# Altium footprint library SIGMA_2D.PcbLib: 200 footprints (part 9 of 13)
Each footprint in its own frame and in the unit in brackets; x right, y up, seen from the top. Pads: shape width x height; smd on the part's side, far side on the other; paste and mask are expansions set on the pad; w line width, h text height; cw(c..) or ccw(c..) is an arc to the next point about the centre after c.
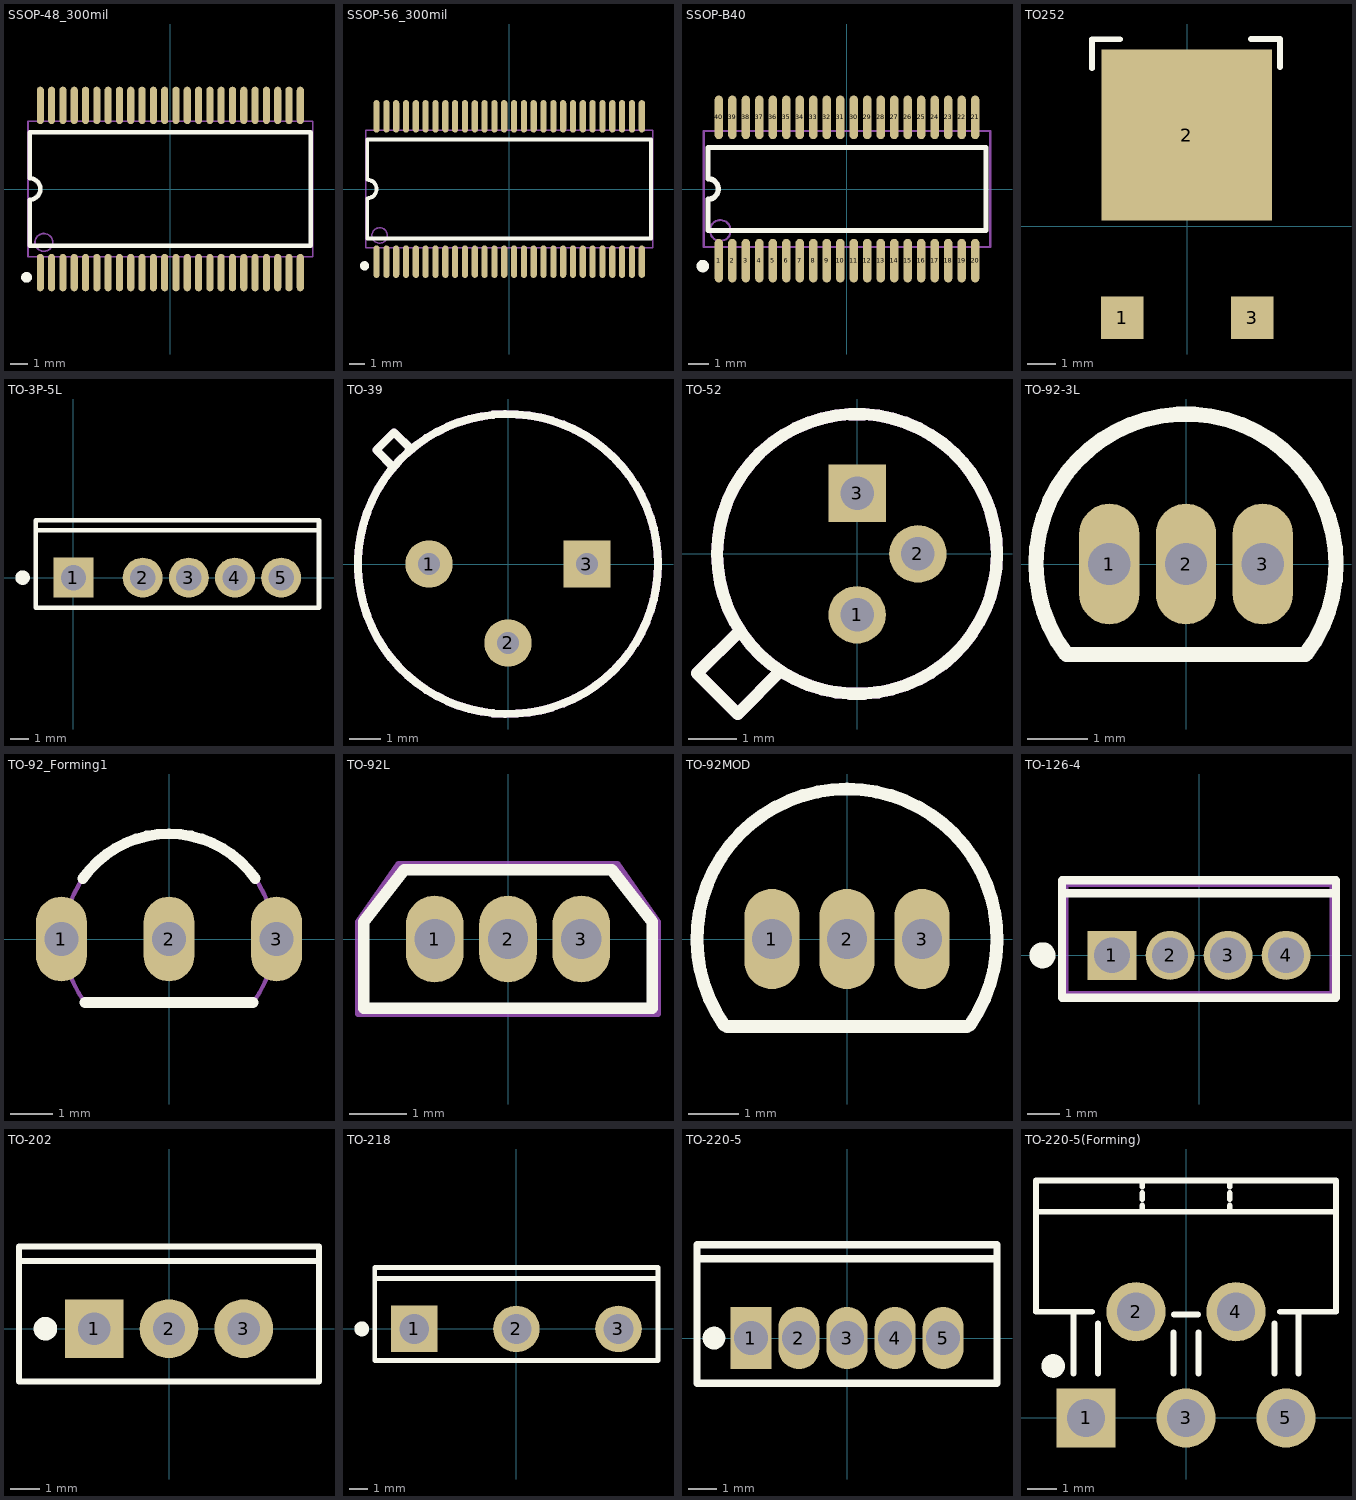
[diagram p8: the footprints below, top view; thin cyan lines are the x and y axes]

## SSOP-48_300mil [mm]
pads (48):
  oval 0.4x2.1 smd mask+0.051: 1(-7.302,-4.7) 2(-6.667,-4.7) 3(-6.032,-4.7) 4(-5.397,-4.7) 5(-4.763,-4.7) 6(-4.127,-4.7) 7(-3.492,-4.7) 8(-2.857,-4.7) 9(-2.222,-4.7) 10(-1.587,-4.7) 11(-0.953,-4.7) 12(-0.318,-4.7) 13(0.318,-4.7) 14(0.953,-4.7) 15(1.587,-4.7) 16(2.222,-4.7) 17(2.857,-4.7) 18(3.492,-4.7) 19(4.127,-4.7) 20(4.763,-4.7) 21(5.397,-4.7) 22(6.032,-4.7) 23(6.667,-4.7) 24(7.302,-4.7) 25(7.302,4.7) 26(6.667,4.7) 27(6.032,4.7) 28(5.397,4.7) 29(4.763,4.7) 30(4.127,4.7) 31(3.492,4.7) 32(2.857,4.7) 33(2.222,4.7) 34(1.587,4.7) 35(0.953,4.7) 36(0.318,4.7) 37(-0.318,4.7) 38(-0.953,4.7) 39(-1.587,4.7) 40(-2.222,4.7) 41(-2.857,4.7) 42(-3.492,4.7) 43(-4.127,4.7) 44(-4.763,4.7) 45(-5.397,4.7) 46(-6.032,4.7) 47(-6.667,4.7) 48(-7.302,4.7)
Top Overlay:
  circle w0.3: c-8.075,-4.965 r0.15
  lines w0.254: -7.9,-3.2 7.9,-3.2 7.9,3.2 -7.9,3.2 -7.9,0.6 cw(c-7.9,0) -7.9,-0.6 -7.9,-3.2
Mechanical 13:
  circle w0.1: c-7.1,-3 r0.5
  lines w0.1: -8,-3.8 8,-3.8 8,3.8 -8,3.8 -8,-3.8

## SSOP-56_300mil [mm]
pads (56):
  oval 0.4x2.1 smd mask+0.051: 1(-8.572,-4.7) 2(-7.937,-4.7) 3(-7.302,-4.7) 4(-6.667,-4.7) 5(-6.032,-4.7) 6(-5.397,-4.7) 7(-4.762,-4.7) 8(-4.127,-4.7) 9(-3.492,-4.7) 10(-2.857,-4.7) 11(-2.222,-4.7) 12(-1.587,-4.7) 13(-0.952,-4.7) 14(-0.317,-4.7) 15(0.318,-4.7) 16(0.953,-4.7) 17(1.588,-4.7) 18(2.223,-4.7) 19(2.858,-4.7) 20(3.493,-4.7) 21(4.128,-4.7) 22(4.763,-4.7) 23(5.398,-4.7) 24(6.033,-4.7) 25(6.668,-4.7) 26(7.303,-4.7) 27(7.938,-4.7) 28(8.573,-4.7) 29(8.573,4.7) 30(7.938,4.7) 31(7.303,4.7) 32(6.668,4.7) 33(6.033,4.7) 34(5.398,4.7) 35(4.763,4.7) 36(4.128,4.7) 37(3.493,4.7) 38(2.858,4.7) 39(2.223,4.7) 40(1.588,4.7) 41(0.953,4.7) 42(0.318,4.7) 43(-0.317,4.7) 44(-0.952,4.7) 45(-1.587,4.7) 46(-2.222,4.7) 47(-2.857,4.7) 48(-3.492,4.7) 49(-4.127,4.7) 50(-4.762,4.7) 51(-5.397,4.7) 52(-6.032,4.7) 53(-6.667,4.7) 54(-7.302,4.7) 55(-7.937,4.7) 56(-8.572,4.7)
Top Overlay:
  circle w0.3: c-9.345,-4.965 r0.15
  lines w0.254: -9.17,-3.2 -9.17,-0.6 ccw(c-9.17,0) -9.17,0.6 -9.17,3.2 9.17,3.2 9.17,-3.2 -9.17,-3.2
Mechanical 13:
  circle w0.1: c-8.37,-3 r0.5
  lines w0.1: -9.27,-3.8 -9.27,3.8 9.27,3.8 9.27,-3.8 -9.27,-3.8

## SSOP-B40 [mm]
pads (40):
  oval 0.4x2.1 smd mask+0.051: 1(-6.175,-3.45) 2(-5.525,-3.45) 3(-4.875,-3.45) 4(-4.225,-3.45) 5(-3.575,-3.45) 6(-2.925,-3.45) 7(-2.275,-3.45) 8(-1.625,-3.45) 9(-0.975,-3.45) 10(-0.325,-3.45) 11(0.325,-3.45) 12(0.975,-3.45) 13(1.625,-3.45) 14(2.275,-3.45) 15(2.925,-3.45) 16(3.575,-3.45) 17(4.225,-3.45) 18(4.875,-3.45) 19(5.525,-3.45) 20(6.175,-3.45) 21(6.175,3.45) 22(5.525,3.45) 23(4.875,3.45) 24(4.225,3.45) 25(3.575,3.45) 26(2.925,3.45) 27(2.275,3.45) 28(1.625,3.45) 29(0.975,3.45) 30(0.325,3.45) 31(-0.325,3.45) 32(-0.975,3.45) 33(-1.625,3.45) 34(-2.275,3.45) 35(-2.925,3.45) 36(-3.575,3.45) 37(-4.225,3.45) 38(-4.875,3.45) 39(-5.525,3.45) 40(-6.175,3.45)
Top Overlay:
  circle w0.3: c-6.947,-3.715 r0.15
  lines w0.254: -6.7,-2 6.7,-2 6.7,2 -6.7,2 -6.7,0.5 cw(c-6.7,0) -6.7,-0.5 -6.7,-2
Mechanical 13:
  circle w0.1: c-6.1,-2 r0.5
  lines w0.1: -6.9,-2.8 -6.9,2.8 6.9,2.8 6.9,-2.8 -6.9,-2.8

## TO252 [mm]
pads (3):
  rect 1.5x1.5 smd: 1(-2.286,-3.213) 3(2.286,-3.213)
  rect 6x6 smd: 2(-0.014,3.213)
Top Overlay:
  lines w0.208: -3.35,5.56 -3.35,6.58 -3.32,6.58 -2.36,6.58 ; 2.25,6.59 3.27,6.59 3.27,6.56 3.27,5.6

## TO-3P-5L [mm]
pads (5):
  rect 2.2x2.2 hole 1.4: 1(0,0)
  round 2.2 hole 1.4: 2(3.81,0) 3(6.35,0) 4(8.89,0) 5(11.43,0)
Top Overlay:
  circle w0.4: c-2.8,0 r0.2
  lines w0.254: -2.085,2.6 13.515,2.6 ; -2.085,-1.65 13.515,-1.65 13.515,3.15 -2.085,3.15 -2.085,-1.65

## TO-39 [mm]
pads (3):
  round 1.5 hole 0.7 mask+0.051: 1(-2.5,0) 2(0,-2.5)
  rect 1.5x1.5 hole 0.7 mask+0.051: 3(2.5,0)
Top Overlay:
  circle w0.254: c0,0 r4.75
  lines w0.254: -3.63,3.06 -4.17,3.61 -3.61,4.17 -3.06,3.63
Mechanical 13:
  circle w0.254: c0,0 r4.75
  lines w0.254: -3.63,3.06 -4.17,3.61 -3.61,4.17 -3.06,3.63

## TO-52 [mm]
pads (3):
  round 1.2 hole 0.7 mask+0.051: 1(0,-1.27) 2(1.27,0)
  rect 1.2x1.2 hole 0.7 mask+0.051: 3(0,1.27)
Top Overlay:
  circle w0.254: c0,0 r2.92
  lines w0.254: -2.44,-1.6 -3.34,-2.49 -2.49,-3.34 -1.6,-2.44
Mechanical 13:
  circle w0.254: c0,0 r2.92
  lines w0.254: -2.44,-1.6 -3.34,-2.49 -2.49,-3.34 -1.6,-2.44

## TO-92-3L [mm]
pads (3):
  oval 1x2 hole 0.7 mask+0.051: 1(-1.27,0) 2(0,0) 3(1.27,0)
Top Overlay:
  lines w0.254: -1.98,-1.5 cw(c0,0) 1.98,-1.5 -1.98,-1.5
Mechanical 13:
  lines w0.1: -1.98,-1.5 cw(c0,0) 1.98,-1.5 -1.98,-1.5

## TO-92_Forming1 [mm]
pads (3):
  oval 1.2x2 hole 0.8: 1(-2.54,0) 2(0,0) 3(2.54,0)
Top Overlay:
  lines w0.254: -2.035,1.425 cw(c0,0) 2.035,1.425 ; -1.98,-1.5 1.98,-1.5
Mechanical 13:
  lines w0.1: -1.98,-1.5 cw(c0,0) 1.98,-1.5 -1.98,-1.5

## TO-92L [mm]
pads (3):
  oval 1x1.5 hole 0.7 mask+0.051: 1(-1.27,0) 2(0,0) 3(1.27,0)
Top Overlay:
  lines w0.2: -2.5,-1.2 2.5,-1.2 2.5,0.3 1.8,1.2 -1.8,1.2 -2.5,0.3 -2.5,-1.2
Mechanical 13:
  lines w0.1: -2.6,-1.3 -2.6,0.3 -1.9,1.3 1.9,1.3 2.6,0.3 2.6,-1.3 -2.6,-1.3

## TO-92MOD [mm]
pads (3):
  oval 1.1x2 hole 0.8: 1(-1.5,0) 2(0,0) 3(1.5,0)
Top Overlay:
  lines w0.254: -2.457,-1.721 cw(c0,0) 2.457,-1.721 ; -2.4,-1.75 2.4,-1.75

## TO-126-4 [mm]
pads (4):
  rect 1.5x1.5 hole 1.1 mask+0.051: 1(-2.67,0)
  round 1.5 hole 1.1 mask+0.051: 2(-0.89,0) 3(0.89,0) 4(2.67,0)
Top Overlay:
  circle w0.4: c-4.8,0 r0.2
  lines w0.254: -4.2,1.9 4.2,1.9 ; -4.2,-1.3 4.2,-1.3 4.2,2.3 -4.2,2.3 -4.2,-1.3
Mechanical 13:
  lines w0.2: -4.1,-1.2 4.1,-1.2 4.1,2.2 -4.1,2.2 -4.1,-1.2

## TO-202 [mm]
pads (3):
  rect 2x2 hole 1.1: 1(-2.54,0)
  round 2 hole 1.1: 2(0,0) 3(2.54,0)
Top Overlay:
  circle w0.4: c-4.2,0 r0.2
  lines w0.203: -5.1,2.3 5.1,2.3 ; -5.1,-1.8 5.1,-1.8 5.1,2.8 -5.1,2.8 -5.1,-1.8

## TO-218 [mm]
pads (3):
  rect 2.5x2.5 hole 1.6: 1(-5.48,0)
  round 2.5 hole 1.6: 2(0,0) 3(5.48,0)
Top Overlay:
  circle w0.4: c-8.3,0 r0.2
  lines w0.254: -7.6,2.7 7.6,2.7 ; -7.6,-1.7 7.6,-1.7 7.6,3.3 -7.6,3.3 -7.6,-1.7

## TO-220-5 [mm]
pads (5):
  rect 1.45x2.2 hole 1.2 mask+0.051: 1(-3.4,0)
  oval 1.45x2.2 hole 1.2 mask+0.051: 2(-1.7,0) 3(0,0) 4(1.7,0) 5(3.4,0)
Top Overlay:
  circle w0.4: c-4.7,0 r0.2
  lines w0.254: -5.2,2.8 5.3,2.8 ; -5.3,-1.6 -5.3,3.3 5.3,3.3 5.3,-1.6 -5.3,-1.6

## TO-220-5(Forming) [mm]
pads (5):
  rect 2x2 hole 1.3: 1(-3.387,0)
  round 2 hole 1.3: 2(-1.693,3.598) 3(0,0) 4(1.693,3.598) 5(3.387,0)
Top Overlay:
  circle w0.4: c-4.5,1.761 r0.2
  lines w0.2: -5.08,6.985 5.08,6.985 ; -3.81,1.5 -3.81,3.598 ; -3.187,3.598 -5.08,3.598 -5.08,8.043 5.08,8.043 5.08,3.598 3.187,3.598 ; -2.987,1.5 -2.987,3.2 ; -1.482,6.985 -1.482,7.197 ; -1.482,7.408 -1.482,7.62 ; -1.482,7.832 -1.482,8.043 ; -0.423,1.5 -0.423,2.9 ; 0.423,1.5 0.423,2.9 ; 1.482,6.985 1.482,7.197 ; 1.482,7.408 1.482,7.62 ; 1.482,7.832 1.482,8.043 ; 2.994,1.5 2.994,3.2 ; 3.81,1.5 3.81,3.598
  lines w0.203: -0.4,3.5 0.4,3.5